# Altium schematic symbol library BLDC_Motor_Driver.SCHLIB: 68 symbols (part 2 of 2)
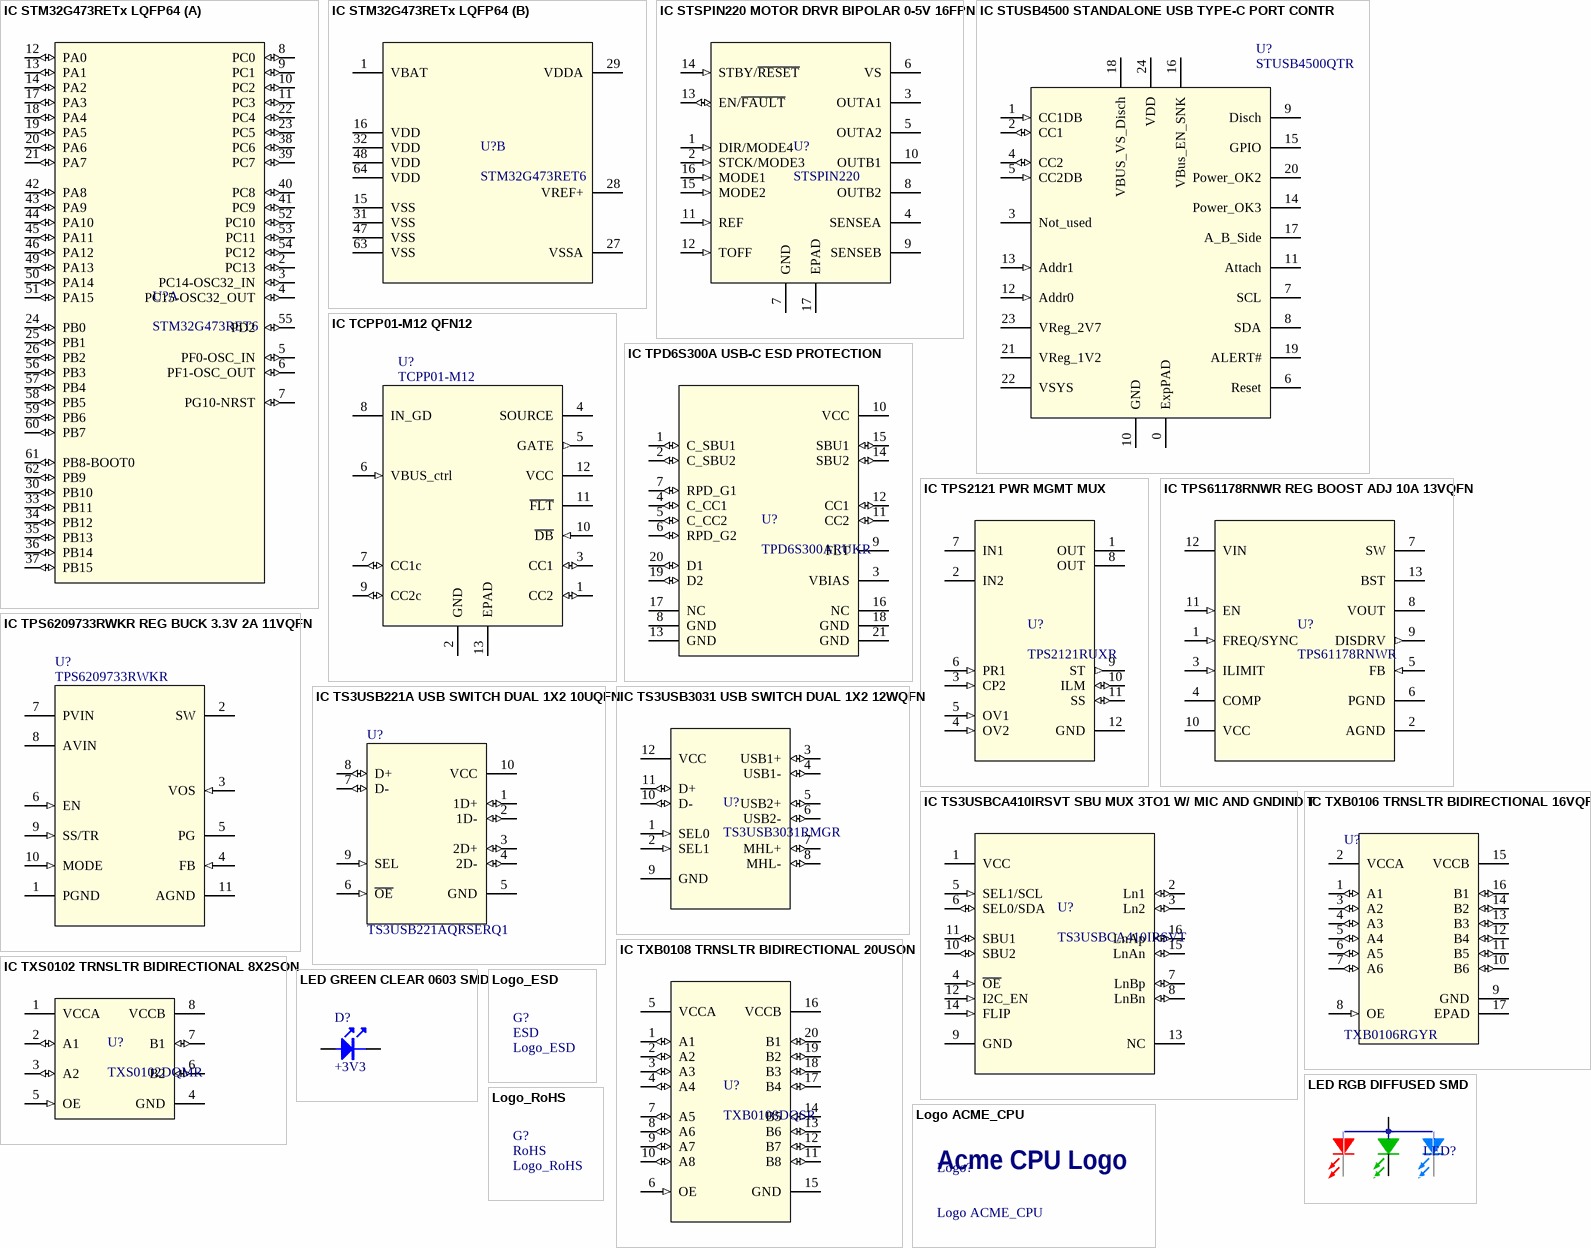
[diagram p5: symbols IC STM32G473RETx LQFP64 to Logo_RoHS]

## IC STM32G473RETx LQFP64
designator U?, comment STM32G473RET6
ARM® Cortex®-M4 STM32G4 Microcontroller IC 32-Bit 170MHz 512KB (512K x 8) FLASH 64-LQFP (10x10); Manufacturer: STMicroelectronics; Data RAM Size: 128 kB; Data RAM Type: SRAM; Interface Type: I2C, SPI, UART, USART, USB; Number of I/Os: 52 I/O; ADC Resolution: 12 bit; Analog Supply Voltage: 1.62 V to 3.6 V; Core: ARM Cortex M4; Data Bus Width: 32 bit; I/O Voltage: 5 V; Number of ADC Channels: 26 Channel; Operating Supply Voltage: 1.71 V to 3.6 V; Supply Voltage - Max: 3.6 V; Supply Voltage - Min: 1.71 V; Watchdog Timers: Watchdog Timer, Windowed; Product Status: New Product; Supplier 1: Mouser; Manufacturer Part Number: STM32G473RET6; RoHS: RoHS Compliant; Category: ARM Microcontrollers - MCU; Stock 1: 313; Pricing 1: 1=7.73, 10=6.99, 25=6.66, 100=5.79, 250=5.53, 500=5.04, 1000=4.54, 2500=4.22 (USD); Package / Case: LQFP-64; Packaging: Tray; Product: MCU+FPU; Program Memory Type: Flash; Series: STM32G473RE; Brand: STMicroelectronics; Mounting Style: SMD/SMT; Program Memory Size: 512 kB; DAC Resolution: 12 bit; Maximum Clock Frequency: 170 MHz; Maximum Operating Temperature: + 85 C; Minimum Operating Temperature: - 40 C; Moisture Sensitive: Yes; Processor Series: STM32G473; Product Type: ARM Microcontrollers - MCU; Standard Pack Qty: 960; Subcategory: Microcontrollers - MCU; Tradename: STM32; RoHS - Mouser: Y; Minimum Order Quantity: 1; Reeling: False; ComponentLink1URL: https://www.mouser.com/datasheet/2/389/dm00528822-1799294.pdf; ComponentLink1Description: https://www.mouser.com/datasheet/2/389/dm00528822-1799294.pdf; Supplier 2: Digi-Key; Supplier Part Number 1: 511-STM32G473RET6; Supplier Part Number 2: 497-STM32G473RET6-ND
footprint LQFP64-10x10mm
part A pins: 2 PC13 (io), 3 PC14-OSC32_IN (io), 4 PC15-OSC32_OUT (io), 5 PF0-OSC_IN (io), 6 PF1-OSC_OUT (io), 7 PG10-NRST (io), 8 PC0 (io), 9 PC1 (io), 10 PC2 (io), 11 PC3 (io), 12 PA0 (io), 13 PA1 (io), 14 PA2 (io), 17 PA3 (io), 18 PA4 (io), 19 PA5 (io), 20 PA6 (io), 21 PA7 (io), 22 PC4 (io), 23 PC5 (io), 24 PB0 (io), 25 PB1 (io), 26 PB2 (io), 30 PB10 (io), 33 PB11 (io), 34 PB12 (io), 35 PB13 (io), 36 PB14 (io), 37 PB15 (io), 38 PC6 (io), 39 PC7 (io), 40 PC8 (io), 41 PC9 (io), 42 PA8 (io), 43 PA9 (io), 44 PA10 (io), 45 PA11 (io), 46 PA12 (io), 49 PA13 (io), 50 PA14 (io), 51 PA15 (io), 52 PC10 (io), 53 PC11 (io), 54 PC12 (io), 55 PD2 (io), 56 PB3 (io), 57 PB4 (io), 58 PB5 (io), 59 PB6 (io), 60 PB7 (io), 61 PB8-BOOT0 (io), 62 PB9 (io)
part B pins: 1 VBAT (power), 15 VSS (power), 16 VDD (power), 27 VSSA (power), 28 VREF+ (power), 29 VDDA (power), 31 VSS (power), 32 VDD (power), 47 VSS (power), 48 VDD (power), 63 VSS (power), 64 VDD (power)

## IC STSPIN220 MOTOR DRVR BIPOLAR 0-5V 16FPN
designator U?, comment STSPIN220
Bipolar Motor Driver Power MOSFET Step/Direction 16-VFQFPN (3x3); Manufacturer: STMicroelectronics; Logic Function: AND; Output Current: 1.3A; Supplier 1: Digi-Key; Manufacturer Part Number: STSPIN220; Stock 1: 3586; Pricing 1: 1=1.62, 10=1.458, 25=1.3752, 100=1.1, 250=0.9625, 500=0.935, 1000=0.7425 (USD); Mount: Surface Mount; Min Operating Temperature: -40°C; Max Operating Temperature: 150°C; Packaging: Cut Tape; ComponentLink1URL: http://www.st.com/content/ccc/resource/technical/document/datasheet/group3/42/7e/5c/90/70/ef/47/95/DM00291865/files/DM00291865.pdf/jcr:content/translations/en.DM00291865.pdf?src-supplier=Digi-Key; ComponentLink1Description: http://www.st.com/content/ccc/resource/technical/document/datasheet/group3/42/7e/5c/90/70/ef/47/95/DM00291865/files/DM00291865.pdf/jcr:content/translations/en.DM00291865.pdf?src-supplier=Digi-Key; ComponentLink2URL: http://www.farnell.com/datasheets/2815804.pdf?src-supplier=Newark; ComponentLink2Description: http://www.farnell.com/datasheets/2815804.pdf?src-supplier=Newark; ComponentLink3URL: http://www.farnell.com/datasheets/2815804.pdf?src-supplier=Farnell; ComponentLink3Description: http://www.farnell.com/datasheets/2815804.pdf?src-supplier=Farnell; Supplier Part Number 1: 497-16602-1-ND
footprint VFQFPN-16_STM
pins: 1 DIR/MODE4 (in), 2 STCK/MODE3 (in), 3 OUTA1 (power), 4 SENSEA (power), 5 OUTA2 (power), 6 VS (power), 7 GND (power), 8 OUTB2 (power), 9 SENSEB (power), 10 OUTB1 (power), 11 REF (in), 12 TOFF (in), 13 EN/~{FAULT} (io), 14 STBY/~{RESET} (in), 15 MODE2 (in), 16 MODE1 (in), 17 EPAD (power)

## IC STUSB4500 STANDALONE USB TYPE-C PORT CONTR
designator U?, comment STUSB4500QTR
Standalone USB PD controller  with SINK auto-run mode in QFN24 4x4mm; Manufacturer: STMicroelectronics; Interface: I2C; Supplier 1: Digi-Key; Manufacturer Part Number: STUSB4500QTR; Stock 1: 1760; Pricing 1: 1=2.12, 10=1.907, 25=1.7996, 100=1.4396, 250=1.2596, 500=1.2237, 1000=0.9717 (USD); Case/Package: QFN; Min Operating Temperature: -40°C; Max Operating Temperature: 105°C; Packaging: Tape and Reel; ComponentLink1URL: http://www.farnell.com/datasheets/2710898.pdf?src-supplier=Farnell; ComponentLink1Description: http://www.farnell.com/datasheets/2710898.pdf?src-supplier=Farnell; ComponentLink2URL: http://www.farnell.com/datasheets/2710898.pdf?src-supplier=Newark; ComponentLink2Description: http://www.farnell.com/datasheets/2710898.pdf?src-supplier=Newark; ComponentLink3URL: http://www.st.com/content/ccc/resource/technical/document/datasheet/group3/1c/4a/55/d7/17/01/44/86/DM00489312/files/DM00489312.pdf/jcr:content/translations/en.DM00489312.pdf?src-supplier=Digi-Key; ComponentLink3Description: http://www.st.com/content/ccc/resource/technical/document/datasheet/group3/1c/4a/55/d7/17/01/44/86/DM00489312/files/DM00489312.pdf/jcr:content/translations/en.DM00489312.pdf?src-supplier=Digi-Key; ComponentLink4URL: http://www.farnell.com/datasheets/2710898.pdf?src-supplier=Element14; ComponentLink4Description: http://www.farnell.com/datasheets/2710898.pdf?src-supplier=Element14; Supplier Part Number 1: 497-18060-1-ND
footprint QFN24 - 4X4mm - pitch 0.5mm - ExposedPAD
pins: 0 ExpPAD, 1 CC1DB (in), 2 CC1 (io), 3 Not_used, 4 CC2 (io), 5 CC2DB (in), 6 Reset, 7 SCL, 8 SDA, 9 Disch (oc), 10 GND, 11 Attach (oc), 12 Addr0 (in), 13 Addr1 (in), 14 Power_OK3 (oc), 15 GPIO (oc), 16 VBus_EN_SNK (oc), 17 A_B_Side (oc), 18 VBUS_VS_Disch, 19 ALERT# (oc), 20 Power_OK2 (oc), 21 VReg_1V2, 22 VSYS, 23 VReg_2V7, 24 VDD

## IC TCPP01-M12 QFN12
designator U?, comment TCPP01-M12
USB Interface IC PROTECTION & FILTER; Manufacturer: STMicroelectronics; Port Type: DFP, UFP; Speed: High Speed; Operating Supply Current: 120 uA; Operating Supply Voltage: 3 V to 3.6 V; Supply Voltage - Max: 3.6 V; Supply Voltage - Min: 3 V; Product Status: New Product; Supplier 1: Mouser; Manufacturer Part Number: TCPP01-M12; RoHS: RoHS Compliant; Category: USB Interface IC; Stock 1: 2680; Pricing 1: 1=0.850, 10=0.722, 100=0.490, 500=0.464, 1000=0.361, 3000=0.343, 6000=0.330, 9000=0.319, 24000=0.310 (USD); Data Rate: -; Package / Case: QFN-12; Packaging: Cut Tape; Product: USB Protectors; Type: Power Delivery; Brand: STMicroelectronics; Mounting Style: SMD/SMT; Maximum Operating Temperature: + 85 C; Minimum Operating Temperature: - 40 C; Moisture Sensitive: Yes; Product Type: USB Interface IC; Standard: USB-C PD; Standard Pack Qty: 3000; Subcategory: Interface ICs; RoHS - Mouser: Y; Minimum Order Quantity: 1; Reeling: True; ComponentLink1URL: https://www.mouser.com/datasheet/2/389/dm00595160-1799482.pdf; ComponentLink1Description: https://www.mouser.com/datasheet/2/389/dm00595160-1799482.pdf; Supplier 2: Digi-Key; Supplier Part Number 1: 511-TCPP01-M12; Supplier Part Number 2: 497-TCPP01-M12CT-ND
footprint ST_QFN50P300x300x75-12L
pins: 1 CC2 (io), 2 GND (power), 3 CC1 (io), 4 SOURCE (power), 5 GATE (out), 6 VBUS_ctrl (in), 7 CC1c (io), 8 IN_GD (power), 9 CC2c (io), 10 ~{DB} (in), 11 ~{FLT} (oc), 12 VCC (power), 13 EPAD (power)

## IC TPD6S300A USB-C ESD PROTECTION
designator U?, comment TPD6S300ARUKR
USB Type-C™ Port Protector: Short-to-VBUS Overvoltage  and IEC ESD Protection; Manufacturer: Texas Instruments; Speed: Super Speed; Operating Supply Current: 600 mA; Operating Supply Voltage: 3.3 V; Supply Voltage - Max: 3.6 V; Supply Voltage - Min: 2.7 V; Supplier 1: Mouser; Manufacturer Part Number: TPD6S300ARUKR; RoHS: RoHS Compliant; Category: USB Interface IC; Stock 1: 6078; Pricing 1: 1=1.31, 10=1.11, 100=0.852, 500=0.753, 1000=0.594, 3000=0.555, 6000=0.527, 9000=0.507 (USD); Data Rate: -; Package / Case: WQFN-20; Packaging: Cut Tape; Product: USB Protectors; Series: TPD6S300A; Brand: Texas Instruments; Interface Type: USB; Mounting Style: SMD/SMT; ESD Protection: ESD Protection; Maximum Operating Temperature: + 85 C; Minimum Operating Temperature: - 40 C; Moisture Sensitive: Yes; Product Type: USB Interface IC; Standard: USB-C 2.0; Standard Pack Qty: 3000; Subcategory: Interface ICs; RoHS - Mouser: Y; Minimum Order Quantity: 1; Reeling: True; Supplier 2: Digi-Key; Supplier Part Number 1: 595-TPD6S300ARUKR; Supplier Part Number 2: 296-51856-1-ND
footprint WQFN20_RUK_TEX
pins: 1 C_SBU1 (io), 2 C_SBU2 (io), 3 VBIAS (power), 4 C_CC1 (io), 5 C_CC2 (io), 6 RPD_G2 (io), 7 RPD_G1 (io), 8 GND, 9 FLT (oc), 10 VCC (power), 11 CC2 (io), 12 CC1 (io), 13 GND, 14 SBU2 (io), 15 SBU1 (io), 16 NC, 17 NC, 18 GND, 19 D2 (io), 20 D1 (io), 21 GND

## IC TPS2121 PWR MGMT MUX
designator U?, comment TPS2121RUXR
OR Controller Source Selector Switch N-Channel 2:1 12-VQFN-HR (2x2.5); Manufacturer: Texas Instruments; Number of Outputs: 1 Output; Current Limit: 4.5 A; On Resistance - Max: 100 mOhms; Operating Supply Voltage: 2.8 V to 22 V; Supply Voltage - Max: 22 V; Supply Voltage - Min: 2.8 V; Product Status: New Product; Supplier 1: Mouser; Manufacturer Part Number: TPS2121RUXR; RoHS: RoHS Compliant; Category: Power Switch ICs - Power Distribution; Stock 1: 13551; Pricing 1: 1=2.08, 10=1.76, 100=1.41, 250=1.24, 500=1.20, 1000=0.951, 3000=0.916, 6000=0.880, 9000=0.866 (USD); Package / Case: VQFN-12; Packaging: Cut Tape; Product: Power Switch ICs; Series: TPS2121; Type: Power MUX; Brand: Texas Instruments; Mounting Style: SMD/SMT; Maximum Operating Temperature: + 125 C; Minimum Operating Temperature: - 40 C; Product Type: Power Switch ICs - Power Distribution; Standard Pack Qty: 3000; Subcategory: Switch ICs; RoHS - Mouser: Y; Minimum Order Quantity: 1; Reeling: True; Supplier 2: Digi-Key; Supplier Part Number 1: 595-TPS2121RUXR; Supplier Part Number 2: 296-53410-6-ND
footprint RUX0012A
pins: 1 OUT (power), 2 IN2 (power), 3 CP2 (in), 4 OV2 (in), 5 OV1 (in), 6 PR1 (in), 7 IN1 (power), 8 OUT (power), 9 ST (out), 10 ILM (io), 11 SS (io), 12 GND (power)

## IC TPS61178RNWR REG BOOST ADJ 10A 13VQFN
designator U?, comment TPS61178RNWR
Boost Switching Regulator IC Positive Adjustable 4.5V 1 Output 10A (Switch) 13-PowerVFQFN; Manufacturer: Texas Instruments; Number of Outputs: 1; Min Input Voltage: 2.7V; Max Input Voltage: 20V; Switching Frequency: 2.2MHz; Synchronous Rectifier: Yes; Supplier 1: Digi-Key; Manufacturer Part Number: TPS61178RNWR; Stock 1: 815; Pricing 1: 1=4.2, 10=3.77, 25=3.564, 100=2.9304, 250=2.6294, 500=2.5344, 1000=2.1067 (USD); Mount: Surface Mount; Case/Package: VQFN; Number of Pins: 13; Min Operating Temperature: -40°C; Max Operating Temperature: 85°C; Topology: Boost; Output Type: Adjustable; Packaging: Cut Tape; Output Configuration: Positive; Min Output Voltage: 4.5V; Max Output Voltage: 20V; Output Current: 10A; ComponentLink1URL: http://www.ti.com/general/docs/suppproductinfo.tsp?distId=10&amp;gotoUrl=http%3A%2F%2Fwww.ti.com%2Flit%2Fgpn%2Ftps61178&src-supplier=Digi-Key; ComponentLink1Description: http://www.ti.com/general/docs/suppproductinfo.tsp?distId=10&amp;gotoUrl=http%3A%2F%2Fwww.ti.com%2Flit%2Fgpn%2Ftps61178&src-supplier=Digi-Key; ComponentLink2URL: http://www.ti.com/lit/ds/symlink/tps61178.pdf?src-supplier=Digi-Key; ComponentLink2Description: http://www.ti.com/lit/ds/symlink/tps61178.pdf?src-supplier=Digi-Key; Supplier Part Number 1: 296-50115-1-ND
footprint RNW0013A
pins: 1 FREQ/SYNC (in), 2 AGND (power), 3 ILIMIT (in), 4 COMP, 5 FB (in), 6 PGND (power), 7 SW (power), 8 VOUT (power), 9 DISDRV (out), 10 VCC (power), 11 EN (in), 12 VIN (power), 13 BST (power)

## IC TPS6209733RWKR REG BUCK 3.3V 2A 11VQFN
designator U?, comment TPS6209733RWKR
Buck Switching Regulator IC Positive Fixed 3.3V 1 Output 2A 11-VFQFN; Manufacturer: Texas Instruments; Number of Outputs: 1; Max Input Voltage: 6V; Min Input Voltage: 2.5V; Switching Frequency: 2.5MHz; Synchronous Rectifier: Yes; Quiescent Current: 40uA; ComponentLink1URL: http://www.ti.com/lit/gpn/tps62097?src-supplier=Mouser; ComponentLink1Description: http://www.ti.com/lit/gpn/tps62097?src-supplier=Mouser; Supplier 1: Digi-Key; Manufacturer Part Number: TPS6209733RWKR; Stock 1: 1536; Pricing 1: 1=1.74, 10=1.561, 100=1.1783, 500=1.0016, 1000=0.7954 (USD); Number of Pins: 11; Min Operating Temperature: -40°C; Max Operating Temperature: 125°C; Packaging: Tape and Reel; Output Current: 2A; Min Output Voltage: 3.3V; Output Type: Fixed; Output Configuration: Positive; Lead Free: Lead Free; Supplier Part Number 1: 296-49007-1-ND; Mount: Surface Mount; Case/Package: VQFN; ComponentLink2URL: http://www.ti.com/lit/ds/symlink/tps62097.pdf?src-supplier=Digi-Key; ComponentLink2Description: http://www.ti.com/lit/ds/symlink/tps62097.pdf?src-supplier=Digi-Key
footprint RWK11
pins: 1 PGND (power), 2 SW (power), 3 VOS (in), 4 FB (in), 5 PG (oc), 6 EN (in), 7 PVIN (power), 8 AVIN (power), 9 SS/TR (in), 10 MODE (in), 11 AGND (power)

## IC TS3USB221A USB SWITCH DUAL 1X2 10UQFN
designator U?, comment TS3USB221AQRSERQ1
USB Switch IC 2 Channel 10-UQFN (2.0x1.5); Manufacturer: Texas Instruments; Operating Supply Voltage: 3V; Max Supply Voltage: 3.6V; Number of Inputs: 4; Number of Outputs: 2; Min Supply Voltage: 2.3V; Data Rate: 480Mbps; Bandwidth: 900MHz; Nominal Supply Current: 30uA; On-State Resistance: 6R; Supply Type: Single; Turn-Off Delay Time: 30ns; Turn-On Delay Time: 12ns; Low Level Output Current: 120mA; Supplier 1: Digi-Key; Manufacturer Part Number: TS3USB221AQRSERQ1; Stock 1: 5569; Pricing 1: 1=1.35, 10=1.21, 25=1.148, 100=0.8815, 250=0.779, 500=0.738, 1000=0.574 (USD); Number of Pins: 10; Contact Plating: Gold; Min Operating Temperature: -40°C; Max Operating Temperature: 125°C; Package Quantity: 3000; Packaging: Tape and Reel; Number of Channels: 2; Operating Supply Current: 30uA; High Level Output Current: 120mA; Radiation Hardening: No; Lead Free: Lead Free; ComponentLink1URL: http://www.ti.com/lit/pdf/scds300?src-supplier=Digi-Key; ComponentLink1Description: http://www.ti.com/lit/pdf/scds300?src-supplier=Digi-Key; ComponentLink2URL: https://www.verical.com/server-webapp/html/getDatasheet?partID=329854&src-supplier=Verical; ComponentLink2Description: https://www.verical.com/server-webapp/html/getDatasheet?partID=329854&src-supplier=Verical; ComponentLink3URL: http://www.ti.com/lit/ds/scds300c/scds300c.pdf?src-supplier=Avnet; ComponentLink3Description: http://www.ti.com/lit/ds/scds300c/scds300c.pdf?src-supplier=Avnet; ComponentLink4URL: http://www.produktinfo.conrad.com/datenblaetter/1100000-1199999/001187374-da-01-en-IC_USB_SWI_TS3USB221AQRSERQ1_UQFN_10_TID.pdf?src-supplier=Conrad; ComponentLink4Description: http://www.produktinfo.conrad.com/datenblaetter/1100000-1199999/001187374-da-01-en-IC_USB_SWI_TS3USB221AQRSERQ1_UQFN_10_TID.pdf?src-supplier=Conrad; Supplier Part Number 1: 296-27719-1-ND
footprint RSE10_TEX
pins: 1 1D+ (io), 2 1D- (io), 3 2D+ (io), 4 2D- (io), 5 GND (power), 6 ~{OE} (in), 7 D- (io), 8 D+ (io), 9 SEL (in), 10 VCC (power)

## IC TS3USB3031 USB SWITCH DUAL 1X2 12WQFN
designator U?, comment TS3USB3031RMGR
USB Switch IC 1 Channel 12-WQFN (1.8x1.8); Manufacturer: Texas Instruments; Bandwidth: 6.5 GHz; Configuration: 1 x DP3T; Off Time - Max: 0.1 ns; On Resistance - Max: 7 Ohms; On Time - Max: 100 us; Development Kit: TS3USB3031EVM; Number of Switches: 2 Switch; Operating Supply Current: 40 uA; Operating Supply Voltage: 2.5 V; Supply Voltage - Max: 4.3 V; Switch Continuous Current: 60 mA; Supplier 1: Mouser; Manufacturer Part Number: TS3USB3031RMGR; RoHS: RoHS Compliant; Category: USB Switch ICs; Stock 1: 14547; Pricing 1: 1=1.16, 10=0.980, 100=0.753, 250=0.666, 500=0.630, 1000=0.490, 3000=0.466, 6000=0.448, 9000=0.434 (USD); Package / Case: WQFN-12; Packaging: Cut Tape; Product: USB 2.0, MHL, MyDP Switches; Series: TS3USB3031; Brand: Texas Instruments; Mounting Style: SMD/SMT; Maximum Operating Temperature: + 85 C; Minimum Operating Temperature: - 40 C; Product Type: USB Switch ICs; Standard Pack Qty: 3000; Subcategory: Switch ICs; Supply Voltage - Min: 2.5 V; RoHS - Mouser: Y; Minimum Order Quantity: 1; Reeling: True; Supplier 2: Digi-Key; Supplier Part Number 1: 595-TS3USB3031RMGR; Supplier Part Number 2: 296-41018-1-ND
footprint RMG12_TEX
pins: 1 SEL0 (in), 2 SEL1 (in), 3 USB1+ (io), 4 USB1- (io), 5 USB2+ (io), 6 USB2- (io), 7 MHL+ (io), 8 MHL- (io), 9 GND (power), 10 D- (io), 11 D+ (io), 12 VCC (power)

## IC TS3USBCA410IRSVT SBU MUX 3TO1 W/ MIC AND GNDIND T
designator U?, comment TS3USBCA410IRSVT
USB Switch IC 1 Channel 16-UQFN (2.6x1.8); Manufacturer: Texas Instruments; Number of Channels: 3; Supplier 1: Digi-Key; Manufacturer Part Number: TS3USBCA410IRSVT; Stock 1: 250; Pricing 1: 1=1.07, 10=0.959, 25=0.91, 100=0.6988 (USD); Min Operating Temperature: -40°C; Max Operating Temperature: 85°C; ComponentLink1URL: http://www.ti.com/general/docs/suppproductinfo.tsp?distId=10&amp;gotoUrl=http%3A%2F%2Fwww.ti.com%2Flit%2Fgpn%2Fts3usbca4&src-supplier=Digi-Key; ComponentLink1Description: http://www.ti.com/general/docs/suppproductinfo.tsp?distId=10&amp;gotoUrl=http%3A%2F%2Fwww.ti.com%2Flit%2Fgpn%2Fts3usbca4&src-supplier=Digi-Key; Supplier Part Number 1: 296-52158-1-ND
footprint RSV16_TEX
pins: 1 VCC (power), 2 Ln1 (io), 3 Ln2 (io), 4 ~{OE} (in), 5 SEL1/SCL (in), 6 SEL0/SDA (io), 7 LnBp (io), 8 LnBn (io), 9 GND (power), 10 SBU2 (io), 11 SBU1 (io), 12 I2C_EN (in), 13 NC, 14 FLIP (in), 15 LnAn (io), 16 LnAp (io)

## IC TXB0106 TRNSLTR BIDIRECTIONAL 16VQFN
designator U?, comment TXB0106RGYR
Voltage Level Translator Bidirectional 1 Circuit 6 Channel 100Mbps 16-VQFN (4x4); Manufacturer: Texas Instruments; Number of Channels: 6; Propagation Delay: 4ns; Max Supply Voltage: 5.5V; Min Supply Voltage: 1.2V; Turn-On Delay Time: 9.5ns; High Level Output Current: -20uA; Low Level Output Current: 20uA; Quiescent Current: 3.5uA; Supplier 1: Digi-Key; Manufacturer Part Number: TXB0106RGYR; Stock 1: 60702; Pricing 1: 1=1.48, 10=1.333, 25=1.2576, 100=1.0714, 250=1.006, 500=0.8803, 1000=0.7294 (USD); Mount: Surface Mount; Case/Package: VQFN; Number of Pins: 16; Weight: 0.001312oz; Contact Plating: Gold; Min Operating Temperature: -40°C; Max Operating Temperature: 85°C; Data Rate: 100Mbps; Packaging: Tape and Reel; Package Quantity: 1; Number of Inputs: 6; Logic Function: Translator; Number of Bits: 6; Number of Outputs: 6; Length: 4.15mm; Height: 0.95mm; Width: 3.65mm; Radiation Hardening: No; REACH SVHC: No SVHC; Lead Free: Lead Free; ComponentLink1URL: http://www.ti.com/lit/ds/symlink/txb0106.pdf?src-supplier=Digi-Key; ComponentLink1Description: http://www.ti.com/lit/ds/symlink/txb0106.pdf?src-supplier=Digi-Key; ComponentLink2URL: http://www.ti.com/lit/gpn/txb0106?src-supplier=Mouser; ComponentLink2Description: http://www.ti.com/lit/gpn/txb0106?src-supplier=Mouser; ComponentLink3URL: https://www.verical.com/server-webapp/html/getDatasheet?partID=256000&src-supplier=Verical; ComponentLink3Description: https://www.verical.com/server-webapp/html/getDatasheet?partID=256000&src-supplier=Verical; ComponentLink4URL: http://www.farnell.com/datasheets/1887516.pdf?src-supplier=Element14; ComponentLink4Description: http://www.farnell.com/datasheets/1887516.pdf?src-supplier=Element14; ComponentLink5URL: http://www.ti.com/general/docs/lit/getliterature.tsp?genericPartNumber=TXB0106&&fileType=pdf&src-supplier=Avnet; ComponentLink5Description: http://www.ti.com/general/docs/lit/getliterature.tsp?genericPartNumber=TXB0106&&fileType=pdf&src-supplier=Avnet; Supplier Part Number 1: 296-23868-1-ND
footprint RGY16
pins: 1 A1 (io), 2 VCCA (power), 3 A2 (io), 4 A3 (io), 5 A4 (io), 6 A5 (io), 7 A6 (io), 8 OE (in), 9 GND (power), 10 B6 (io), 11 B5 (io), 12 B4 (io), 13 B3 (io), 14 B2 (io), 15 VCCB (power), 16 B1 (io), 17 EPAD (power)

## IC TXB0108 TRNSLTR BIDIRECTIONAL 20USON
designator U?, comment TXB0108DQSR
Voltage Level Translator Bidirectional 1 Circuit 8 Channel 100Mbps 20-USON (4x2); Manufacturer: Texas Instruments; Max Supply Voltage: 5.5V; Min Supply Voltage: 1.2V; Propagation Delay: 4ns; Number of Inputs: 8; High Level Output Current: -20uA; Low Level Output Current: 20uA; Quiescent Current: 3.5uA; Turn-On Delay Time: 35.6ns; Supplier 1: Digi-Key; Manufacturer Part Number: TXB0108DQSR; Stock 1: 18752; Pricing 1: 1=1.29, 10=1.151, 25=1.092, 100=0.897, 250=0.8385, 500=0.741, 1000=0.585 (USD); Mount: Surface Mount; Number of Pins: 20; Min Operating Temperature: -40°C; Max Operating Temperature: 85°C; Packaging: Tape and Reel; Package Quantity: 1; Data Rate: 100Mbps; Number of Channels: 8; Logic Function: Translator; Number of Bits: 8; Radiation Hardening: No; REACH SVHC: No SVHC; Lead Free: Lead Free; ComponentLink1URL: http://www.ti.com/general/docs/lit/getliterature.tsp?genericPartNumber=TXB0108&amp;&amp;fileType=pdf&src-supplier=Element14; ComponentLink1Description: http://www.ti.com/general/docs/lit/getliterature.tsp?genericPartNumber=TXB0108&amp;&amp;fileType=pdf&src-supplier=Element14; ComponentLink2URL: http://www.ti.com/general/docs/suppproductinfo.tsp?distId=10&gotoUrl=http%3A%2F%2Fwww.ti.com%2Flit%2Fgpn%2Ftxb0108&src-supplier=Digi-Key; ComponentLink2Description: http://www.ti.com/general/docs/suppproductinfo.tsp?distId=10&gotoUrl=http%3A%2F%2Fwww.ti.com%2Flit%2Fgpn%2Ftxb0108&src-supplier=Digi-Key; ComponentLink3URL: http://www.ti.com/lit/ds/symlink/txb0108.pdf?src-supplier=Avnet+Europe; ComponentLink3Description: http://www.ti.com/lit/ds/symlink/txb0108.pdf?src-supplier=Avnet+Europe; ComponentLink4URL: http://www.ti.com/general/docs/lit/getliterature.tsp?genericPartNumber=TXB0108&&fileType=pdf&src-supplier=Avnet; ComponentLink4Description: http://www.ti.com/general/docs/lit/getliterature.tsp?genericPartNumber=TXB0108&&fileType=pdf&src-supplier=Avnet; Supplier Part Number 1: 296-27217-1-ND
footprint DQS20_TEX
pins: 1 A1 (io), 2 A2 (io), 3 A3 (io), 4 A4 (io), 5 VCCA (power), 6 OE (in), 7 A5 (io), 8 A6 (io), 9 A7 (io), 10 A8 (io), 11 B8 (io), 12 B7 (io), 13 B6 (io), 14 B5 (io), 15 GND (power), 16 VCCB (power), 17 B4 (io), 18 B3 (io), 19 B2 (io), 20 B1 (io)

## IC TXS0102 TRNSLTR BIDIRECTIONAL 8X2SON
designator U?, comment TXS0102DQMR
2-Bit Bidirectional Voltage-Level Translator for Open-Drain Application; Manufacturer: Texas Instruments; Max Supply Voltage: 5.5V; Min Supply Voltage: 1.65V; Propagation Delay: 260ns; Data Rate: 24Mbps; Number of Channels: 2; Turn-On Delay Time: 4.6ns; Low Level Output Current: 1mA; High Level Output Current: -20uA; Quiescent Current: 14.4uA; Supplier 1: Digi-Key; Manufacturer Part Number: TXS0102DQMR; Stock 1: 53273; Pricing 1: 1=0.69, 10=0.611, 25=0.5736, 100=0.4681, 250=0.4348, 500=0.37, 1000=0.296 (USD); Mount: Surface Mount; Number of Pins: 8; Contact Plating: Gold; Min Operating Temperature: -40°C; Max Operating Temperature: 85°C; Packaging: Tape and Reel; Package Quantity: 1; Logic Function: Translator; Number of Bits: 2; Number of Inputs: 2; Output Type: Voltage; Length: 1.85mm; Height: 0.35mm; Width: 1.25mm; Radiation Hardening: No; REACH SVHC: No SVHC; Lead Free: Lead Free; ComponentLink1URL: https://www.verical.com/server-webapp/html/getDatasheet?partID=544149&src-supplier=Verical; ComponentLink1Description: https://www.verical.com/server-webapp/html/getDatasheet?partID=544149&src-supplier=Verical; ComponentLink2URL: http://www.ti.com/general/docs/suppproductinfo.tsp?distId=10&gotoUrl=http%3A%2F%2Fwww.ti.com%2Flit%2Fgpn%2Ftxs0102&src-supplier=Digi-Key; ComponentLink2Description: http://www.ti.com/general/docs/suppproductinfo.tsp?distId=10&gotoUrl=http%3A%2F%2Fwww.ti.com%2Flit%2Fgpn%2Ftxs0102&src-supplier=Digi-Key; Supplier Part Number 1: 296-28435-1-ND
footprint DQM8
pins: 1 VCCA (power), 2 A1 (io), 3 A2 (io), 4 GND (power), 5 OE (in), 6 B2 (io), 7 B1 (io), 8 VCCB (power)

## LED GREEN CLEAR 0603 SMD
designator D?, comment +3V3
Green 571nm LED Indication - Discrete 2V 0603 (1608 Metric); Manufacturer: Vishay Lite-On; Manufacturer Part Number: LTST-C191KGKT; Lens Color: Colorless; Luminous Intensity: 35mcd; Viewing Angle: 130°; Test Current: 20mA; Lens Transparency: Clear; Wavelength: 574nm; Lens Style: Rectangular,Colorless; Forward Current: 30mA; Number of Elements: 1; Power Dissipation: 75mW; Reverse Voltage: 5V; Supplier 1: Digi-Key; Supplier Part Number 1: 160-1446-6-ND; Stock 1: 788359; Pricing 1: 1=0.28, 10=0.201, 100=0.0954, 500=0.0636, 1000=0.0498, 2500=0.0488 (USD); Mount: Surface Mount; Number of Pins: 2; Case Code (Metric): 1608; Case Code (Imperial): 0603; Min Operating Temperature: -55°C; Max Operating Temperature: 85°C; Packaging: Tape and Reel; Package Quantity: 1; Forward Voltage: 2V; Dominant Wavelength: 571nm; Illumination Color: Green; Number of LEDs: 1; Power Rating: 75mW; Max Power Dissipation: 75mW; Length: 1.6mm; Height: 0.55mm; Width: 0.8mm; Depth: 0.8mm; Radiation Hardening: No; Lead Free: Lead Free; ComponentLink1URL: http://optoelectronics.liteon.com/upload/download/DS22-2000-228/LTST-C191KGKT.PDF?src-supplier=Digi-Key; ComponentLink1Description: http://optoelectronics.liteon.com/upload/download/DS22-2000-228/LTST-C191KGKT.PDF?src-supplier=Digi-Key
footprint LED_0603 (LED Indication - Discrete 0603)
pins: 1 K, 2 A

## LED RGB DIFFUSED SMD
designator LED?, comment 150066M153000  (value not drawn)
Red, Green, Blue (RGB) 624nm Red, 525nm Green, 470nm Blue LED Indication - Discrete 2V Red, 3.3V Green, 3.3V Blue 0606 (1616 Metric); Manufacturer: Wurth Electronics; Color: Blue,Green,Red; Lens Style: Flat; Element Configuration: Common Anode; Lens Transparency: Diffused; Luminous Intensity: 180mcd; Test Current: 20mA; Viewing Angle: 120°; Lens Size: 1.6mm; Supplier 1: Digi-Key; Manufacturer Part Number: 150066M153000; Stock 1: 7810; Pricing 1: 1=0.51, 50=0.415, 100=0.298, 500=0.272 (USD); Mount: Surface Mount; Case/Package: 0606; Case Code (Imperial): 0606; Case Code (Metric): 1616; Packaging: Tape and Reel; Forward Voltage: 3.3V; Dominant Wavelength: 470nm; Length: 1.6mm; Height: 0.5mm; Width: 1.6mm; ComponentLink1URL: https://katalog.we-online.de/led/datasheet/150066M153000.pdf?src-supplier=Digi-Key; ComponentLink1Description: https://katalog.we-online.de/led/datasheet/150066M153000.pdf?src-supplier=Digi-Key; ComponentLink2URL: http://www.farnell.com/datasheets/2301702.pdf?src-supplier=Farnell; ComponentLink2Description: http://www.farnell.com/datasheets/2301702.pdf?src-supplier=Farnell; ComponentLink3URL: http://www.farnell.com/datasheets/2301702.pdf?src-supplier=Newark; ComponentLink3Description: http://www.farnell.com/datasheets/2301702.pdf?src-supplier=Newark; ComponentLink4URL: http://www.farnell.com/datasheets/2301702.pdf?src-supplier=Element14; ComponentLink4Description: http://www.farnell.com/datasheets/2301702.pdf?src-supplier=Element14; Supplier Part Number 1: 732-11390-1-ND
footprint LED_0606_RGB_WURTH (Chip; Body 1.6 x 1.6 mm (LxW typ) WURTH)
pins: A, BK, GK, RK

## Logo ACME_CPU
designator Logo?  (no BOM)
ClassName: PCB_FEATURE
footprint LOGO_ACME_CPU (Footprint not found)
text: Acme CPU Logo

## Logo_ESD
designator G?  (no BOM)
footprint Logo_ESD (Silk only)
text: ESD

## Logo_RoHS
designator G?  (no BOM)
footprint Logo_RoHS (Silk only)
text: RoHS

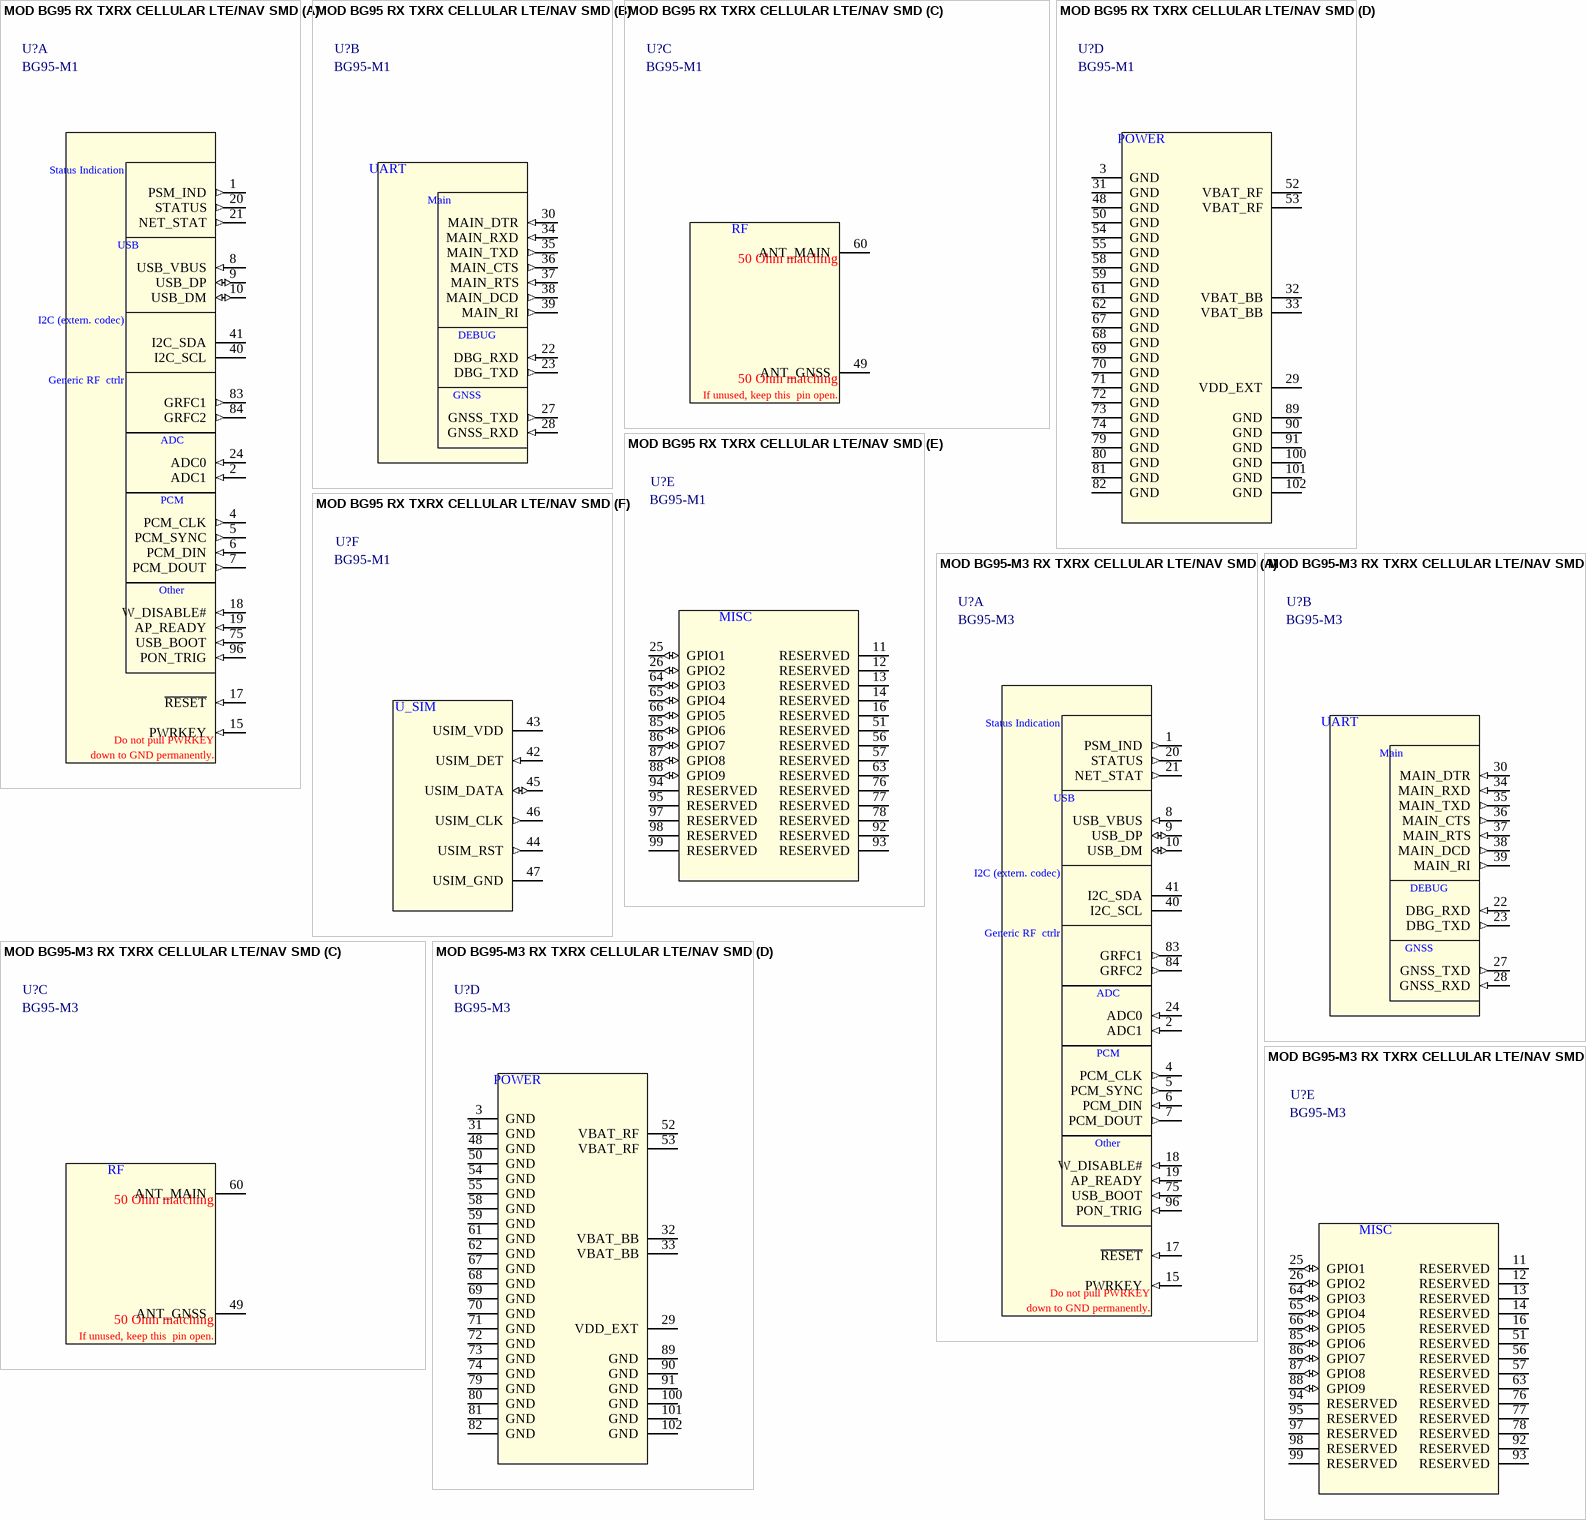
[diagram p3: symbols MOD BG95 RX TXRX CELLULAR LTE/NAV SMD to MOD BG95-M3 RX TXRX CELLULAR LTE/NAV SMD]

## MOD BG95 RX TXRX CELLULAR LTE/NAV SMD
designator U?, comment BG95-M1
LTE Cat M1, LTE Cat NB2 and EGPRS Transceiver Module Antenna Not Included Surface Mount; Manufacturer: QUECTEL; Part Description: IC MODULE BG95 102-LGA 19.9x23.6mm H2.2mm RO; Geometry.Height: 2.2mm; Value: BG95; Manufacturer Part Number: BG95-M1; PCB DECAL: BG95
footprint BG95
part A pins: 1 PSM_IND (out), 2 ADC1 (in), 4 PCM_CLK (out), 5 PCM_SYNC (out), 6 PCM_DIN (in), 7 PCM_DOUT (out), 8 USB_VBUS (in), 9 USB_DP (io), 10 USB_DM (io), 15 PWRKEY (in), 17 ~{RESET} (in), 18 W_DISABLE# (in), 19 AP_READY (in), 20 STATUS (out), 21 NET_STAT (out), 24 ADC0 (in), 40 I2C_SCL, 41 I2C_SDA, 75 USB_BOOT (in), 83 GRFC1 (out), 84 GRFC2 (out), 96 PON_TRIG (in)
part B pins: 22 DBG_RXD (in), 23 DBG_TXD (out), 27 GNSS_TXD (out), 28 GNSS_RXD (in), 30 MAIN_DTR (in), 34 MAIN_RXD (in), 35 MAIN_TXD (out), 36 MAIN_CTS (out), 37 MAIN_RTS (in), 38 MAIN_DCD (out), 39 MAIN_RI (out)
part C pins: 49 ANT_GNSS, 60 ANT_MAIN
part D pins: 3 GND (power), 29 VDD_EXT (power) "If unused, keep this  pin open", 31 GND (power), 32 VBAT_BB (power), 33 VBAT_BB (power), 48 GND (power), 50 GND (power), 52 VBAT_RF (power), 53 VBAT_RF (power), 54 GND (power), 55 GND (power), 58 GND (power), 59 GND (power), 61 GND (power), 62 GND (power), 67 GND (power), 68 GND (power), 69 GND (power), 70 GND (power), 71 GND (power), 72 GND (power), 73 GND (power), 74 GND (power), 79 GND (power), 80 GND (power), 81 GND (power), 82 GND (power), 89 GND (power), 90 GND (power), 91 GND (power), 100 GND (power), 101 GND (power), 102 GND (power)
part E pins: 11 RESERVED, 12 RESERVED, 13 RESERVED, 14 RESERVED, 16 RESERVED, 25 GPIO1 (io), 26 GPIO2 (io), 51 RESERVED, 56 RESERVED, 57 RESERVED, 63 RESERVED, 64 GPIO3 (io), 65 GPIO4 (io), 66 GPIO5 (io), 76 RESERVED, 77 RESERVED, 78 RESERVED, 85 GPIO6 (io), 86 GPIO7 (io), 87 GPIO8 (io), 88 GPIO9 (io), 92 RESERVED, 93 RESERVED, 94 RESERVED, 95 RESERVED, 97 RESERVED, 98 RESERVED, 99 RESERVED
part F pins: 42 USIM_DET (in), 43 USIM_VDD (power), 44 USIM_RST (out), 45 USIM_DATA (io), 46 USIM_CLK (out), 47 USIM_GND (power)
part A text: Status Indication; USB; I2C (extern. codec); Generic RF  ctrlr; ADC; PCM; Other; Do not pull PWRKEY; down to GND permanently.
part B text: UART; Main; DEBUG; GNSS
part C text: RF; 50 Ohm matching; If unused, keep this  pin open.
part D text: POWER
part E text: MISC
part F text: U_SIM

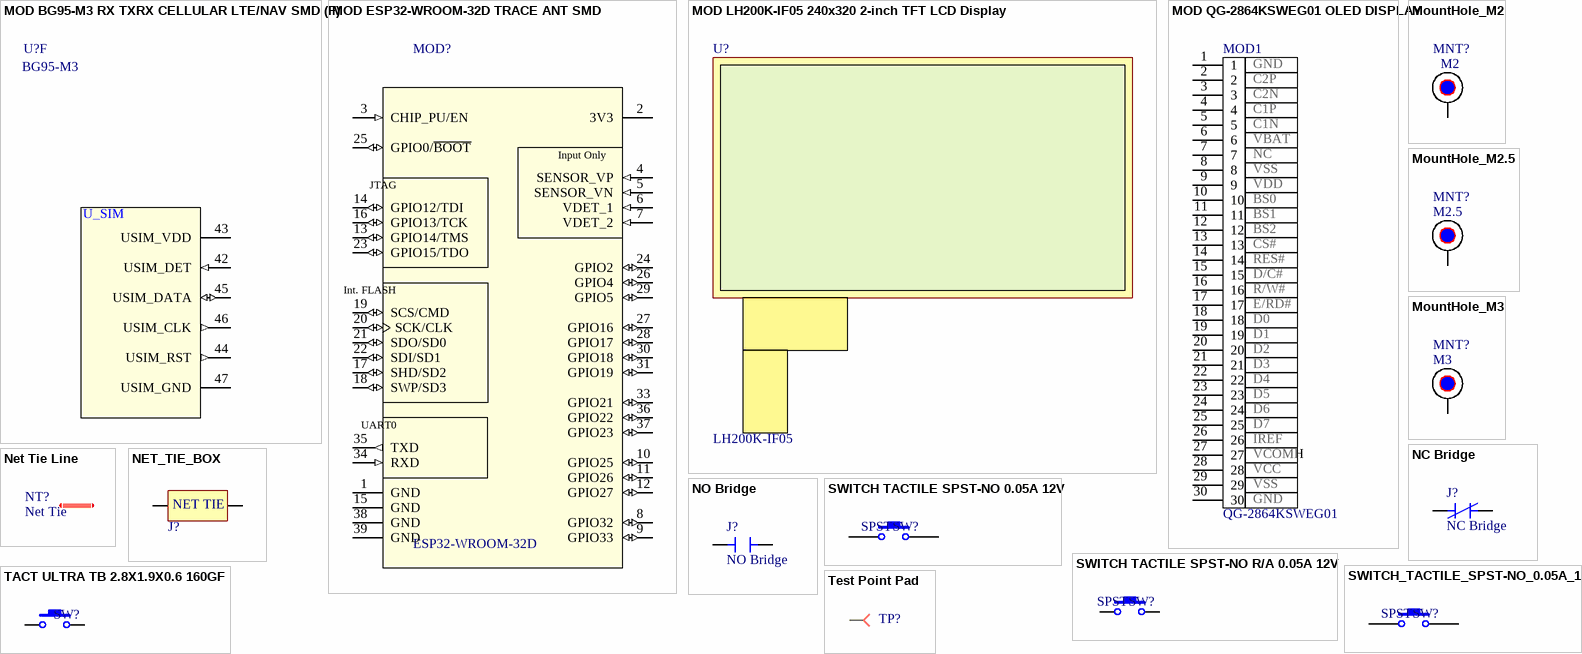
[diagram p4: symbols MOD BG95-M3 RX TXRX CELLULAR LTE/NAV SMD to Test Point Pad]

## MOD BG95-M3 RX TXRX CELLULAR LTE/NAV SMD
designator U?, comment BG95-M3
LTE Cat M1, LTE Cat NB2 and EGPRS Transceiver Module Antenna Not Included Surface Mount; Manufacturer: QUECTEL; Part Description: IC MODULE BG95 102-LGA 19.9x23.6mm H2.2mm RO; Geometry.Height: 2.2mm; Value: BG95; Manufacturer Part Number: BG95-M3; PCB DECAL: BG95
footprint BG95
part A pins: 1 PSM_IND (out), 2 ADC1 (in), 4 PCM_CLK (out), 5 PCM_SYNC (out), 6 PCM_DIN (in), 7 PCM_DOUT (out), 8 USB_VBUS (in), 9 USB_DP (io), 10 USB_DM (io), 15 PWRKEY (in), 17 ~{RESET} (in), 18 W_DISABLE# (in), 19 AP_READY (in), 20 STATUS (out), 21 NET_STAT (out), 24 ADC0 (in), 40 I2C_SCL, 41 I2C_SDA, 75 USB_BOOT (in), 83 GRFC1 (out), 84 GRFC2 (out), 96 PON_TRIG (in)
part B pins: 22 DBG_RXD (in), 23 DBG_TXD (out), 27 GNSS_TXD (out), 28 GNSS_RXD (in), 30 MAIN_DTR (in), 34 MAIN_RXD (in), 35 MAIN_TXD (out), 36 MAIN_CTS (out), 37 MAIN_RTS (in), 38 MAIN_DCD (out), 39 MAIN_RI (out)
part C pins: 49 ANT_GNSS, 60 ANT_MAIN
part D pins: 3 GND (power), 29 VDD_EXT (power) "If unused, keep this  pin open", 31 GND (power), 32 VBAT_BB (power), 33 VBAT_BB (power), 48 GND (power), 50 GND (power), 52 VBAT_RF (power), 53 VBAT_RF (power), 54 GND (power), 55 GND (power), 58 GND (power), 59 GND (power), 61 GND (power), 62 GND (power), 67 GND (power), 68 GND (power), 69 GND (power), 70 GND (power), 71 GND (power), 72 GND (power), 73 GND (power), 74 GND (power), 79 GND (power), 80 GND (power), 81 GND (power), 82 GND (power), 89 GND (power), 90 GND (power), 91 GND (power), 100 GND (power), 101 GND (power), 102 GND (power)
part E pins: 11 RESERVED, 12 RESERVED, 13 RESERVED, 14 RESERVED, 16 RESERVED, 25 GPIO1 (io), 26 GPIO2 (io), 51 RESERVED, 56 RESERVED, 57 RESERVED, 63 RESERVED, 64 GPIO3 (io), 65 GPIO4 (io), 66 GPIO5 (io), 76 RESERVED, 77 RESERVED, 78 RESERVED, 85 GPIO6 (io), 86 GPIO7 (io), 87 GPIO8 (io), 88 GPIO9 (io), 92 RESERVED, 93 RESERVED, 94 RESERVED, 95 RESERVED, 97 RESERVED, 98 RESERVED, 99 RESERVED
part F pins: 42 USIM_DET (in), 43 USIM_VDD (power), 44 USIM_RST (out), 45 USIM_DATA (io), 46 USIM_CLK (out), 47 USIM_GND (power)
part A text: Status Indication; USB; I2C (extern. codec); Generic RF  ctrlr; ADC; PCM; Other; Do not pull PWRKEY; down to GND permanently.
part B text: UART; Main; DEBUG; GNSS
part C text: RF; 50 Ohm matching; If unused, keep this  pin open.
part D text: POWER
part E text: MISC
part F text: U_SIM

## MOD ESP32-WROOM-32D TRACE ANT SMD
designator MOD?, comment ESP32-WROOM-32D
Bluetooth, WiFi 802.11b/g/n, Bluetooth v4.2 + EDR, Class 1, 2 and 3 Transceiver Module 2.4GHz ~ 2.5GHz Integrated, Trace Surface Mount; Manufacturer: Espressif Systems; Interface: I2C,SPI,GPIO,PWM,SDIO,UART; Data Rate: 150Mbps; Sensitivity: -98dBm; Memory Size: 536KB; Supplier 1: Digi-Key; Manufacturer Part Number: ESP32-WROOM-32D; Stock 1: 11163; Pricing 1: 1=3.8 (USD); Mount: Surface Mount; Case/Package: SMD/SMT; Min Operating Temperature: -40°C; Max Operating Temperature: 85°C; Packaging: Cut Tape; Frequency: 2.5GHz; ComponentLink1URL: https://www.espressif.com/sites/default/files/documentation/esp32-wroom-32d_esp32-wroom-32u_datasheet_en.pdf?src-supplier=Digi-Key; ComponentLink1Description: https://www.espressif.com/sites/default/files/documentation/esp32-wroom-32d_esp32-wroom-32u_datasheet_en.pdf?src-supplier=Digi-Key; Supplier Part Number 1: 1904-1023-1-ND
footprint MODULE_ESP32-WROOM-32D
pins: 1 GND (power), 2 3V3 (power), 3 CHIP_PU/EN (in), 4 SENSOR_VP (in), 5 SENSOR_VN (in), 6 VDET_1 (in), 7 VDET_2 (in), 8 GPIO32 (io), 9 GPIO33 (io), 10 GPIO25 (io), 11 GPIO26 (io), 12 GPIO27 (io), 13 GPIO14/TMS (io), 14 GPIO12/TDI (io), 15 GND (power), 16 GPIO13/TCK (io), 17 SHD/SD2 (io), 18 SWP/SD3 (io), 19 SCS/CMD (io), 20 SCK/CLK (io), 21 SDO/SD0 (io), 22 SDI/SD1 (io), 23 GPIO15/TDO (io), 24 GPIO2 (io), 25 GPIO0/~{BOOT} (io), 26 GPIO4 (io), 27 GPIO16 (io), 28 GPIO17 (io), 29 GPIO5 (io), 30 GPIO18 (io), 31 GPIO19 (io), 33 GPIO21 (io), 34 RXD (in), 35 TXD (out), 36 GPIO22 (io), 37 GPIO23 (io), 38 GND (power), 39 GND (power)
text: Input Only; JTAG; Int. FLASH; UART0

## MOD LH200K-IF05 240x320 2-inch TFT LCD Display
designator U?, comment LH200K-IF05  (mechanical)
2” TFT LCD Display.; Manufacturer: Shenzhen Limito Technology Inc.; Manufacturer Part Number: LH200K-IF05

## MOD QG-2864KSWEG01 OLED DISPLAY
designator MOD1, comment QG-2864KSWEG01  pin_1: GND  pin_2: C2P  pin_3: C2N  pin_4: C1P  pin_5: C1N  pin_6: VBAT  pin_7: NC  pin_8: VSS  pin_9: VDD  pin_10: BS0  pin_11: BS1  pin_12: BS2  pin_13: CS#  pin_14: RES#  pin_15: D/C#  pin_16: R/W#  pin_17: E/RD#  pin_18: D0  pin_19: D1  pin_20: D2  pin_21: D3  pin_22: D4  pin_23: D5  pin_24: D6  pin_25: D7  pin_26: IREF  pin_27: VCOMH  pin_28: VCC
OLED Display Module FPC #LT1306P22 TOP 30P 0.7MM; Manufacturer: Limito Technology Inc.; Number of Columns: 128; Number of Circuits: 30; Manufacturer Part Number: QG-2864KSWEG01; Mount: Surface Mount; Min Operating Temperature: -40°C; Max Operating Temperature: 70°C; Number of Rows: 64; Number of Contacts: 30; Pitch: 0.7mm; pin_29: VSS; pin_30: GND
footprint QG-2864KSWEG01_Flipped (Folding Type OLED Display Module)
footprint QG-2864KSWEG01_STRAIGHT (Folding Type OLED Display Module)
pins: 1, 2, 3, 4, 5, 6, 7, 8, 9, 10, 11, 12, 13, 14, 15, 16, 17, 18, 19, 20, 21, 22, 23, 24, 25, 26, 27, 28, 29, 30

## MountHole_M2
designator MNT?, comment MountHole M2. Nothing to buy or mount  (value not drawn)  (no BOM)
PCB Mount Hole. There is nothing to buy or mount.
footprint MountHole_M2 (Footprint not found)
pins: 1
text: M2

## MountHole_M2.5
designator MNT?, comment MountHole M3. Nothing to buy or mount  (value not drawn)  (no BOM)
PCB Mount Hole. There is nothing to buy or mount.
footprint MountHole_M2.5 (Mount Hole M2.5)
pins: 1
text: M2.5

## MountHole_M3
designator MNT?, comment MountHole M3. Nothing to buy or mount  (value not drawn)  (no BOM)
PCB Mount Hole. There is nothing to buy or mount.
footprint MountHole_M3
pins: 1
text: M3

## NC Bridge
designator J?  (net tie, no BOM)
NC PCB Bridge (May be opened by cutting the copper trace)
footprint NC_SolderBridge_0603
footprint NC_SolderBridge_0805
footprint NC_SolderBridge_1206
pins: 1, 2

## Net Tie Line
designator NT?, comment Net Tie  (net tie, no BOM)
ClassName: Net Tie
footprint Net Tie 1x3mm
footprint Net Tie 6x30mil
footprint Net Tie 8x30mil
pins: 1, 2

## NET_TIE_BOX
designator J?  (value not drawn)  (net tie, no BOM)
A Copper Track on a PCB to connect two separated reference nets
footprint NET TIE 040 040 (0.4mm)
footprint NET TIE 100 060 (1.0mm)
pins: 1, 2
text: NET TIE

## NO Bridge
designator J?  (no BOM)
NO PCB Bridge (May be closed by a solder blob)
footprint NO_SolderBridge_0603
footprint NO_SolderBridge_0805
footprint NO_SolderBridge_1206
pins: 1, 2

## SWITCH TACTILE SPST-NO 0.05A 12V
designator SW?, comment SPST
Tactile Switch SPST-NO Top Actuated Surface Mount; Manufacturer: Omron; Manufacturer Part Number: B3U-1000P; Mechanical Life: 200000Cycles; Contact Current Rating: 50mA; Operating Force: 1.5N; Voltage Rating (DC): 12V; Contact Resistance: 100mR; Illumination Type: Non-Illuminated,Illuminated; Switch Travel: 0.15mm; Switch Function: Off-Mom; Actuator Type: Standard; Actuator Length: 0.4mm; Ratings: Dust Proof,IP40; Supplier 1: Digi-Key; Stock 1: 43634; Pricing 1: 1=0.98, 10=0.943, 25=0.8812, 100=0.765, 250=0.6961, 500=0.6454, 1000=0.5982 (USD); Mount: Surface Mount; Weight: 0.000776oz; Contact Material: Silver; Min Operating Temperature: -25°C; Max Operating Temperature: 70°C; Max Current Rating: 50mA; Packaging: Tape and Reel; Throw Configuration: SPST; Package Quantity: 1; Max Voltage Rating (DC): 12V; Current Rating: 50mA; Termination: SMD/SMT; Electrical Life: 200000Cycles; Insulation Resistance: 100MR; Orientation: Straight; Length: 4mm; Height: 1.2mm; Width: 3mm; Depth: 2.5mm; REACH SVHC: Unknown; Lead Free: Lead Free; ComponentLink1URL: https://www.verical.com/server-webapp/html/getDatasheet?partID=552554&src-supplier=Verical; ComponentLink1Description: https://www.verical.com/server-webapp/html/getDatasheet?partID=552554&src-supplier=Verical; ComponentLink2URL: http://www.farnell.com/datasheets/2610940.pdf?src-supplier=Element14; ComponentLink2Description: http://www.farnell.com/datasheets/2610940.pdf?src-supplier=Element14; ComponentLink3URL: http://www.farnell.com/datasheets/2610940.pdf?src-supplier=Farnell; ComponentLink3Description: http://www.farnell.com/datasheets/2610940.pdf?src-supplier=Farnell; ComponentLink4URL: https://www.distrelec.biz/Web/Downloads/he/et/B3U_eng_datasheet.pdf?mime=application%2Fpdf&src-supplier=Distrelec; ComponentLink4Description: https://www.distrelec.biz/Web/Downloads/he/et/B3U_eng_datasheet.pdf?mime=application%2Fpdf&src-supplier=Distrelec; ComponentLink5URL: https://omronfs.omron.com/en_US/ecb/products/pdf/en-b3u.pdf?src-supplier=Digi-Key; ComponentLink5Description: https://omronfs.omron.com/en_US/ecb/products/pdf/en-b3u.pdf?src-supplier=Digi-Key; ComponentLink6URL: http://www.onlinecomponents.com/productFiles/mf-OM/en-b3u.pdf?src-supplier=Onlinecomponents.com; ComponentLink6Description: http://www.onlinecomponents.com/productFiles/mf-OM/en-b3u.pdf?src-supplier=Onlinecomponents.com; ComponentLink7URL: https://www.alliedelec.com/m/d/4c8a9ef82804fc3c241a13c1e298fd73.pdf?src-supplier=Allied+Electronics; ComponentLink7Description: https://www.alliedelec.com/m/d/4c8a9ef82804fc3c241a13c1e298fd73.pdf?src-supplier=Allied+Electronics; Supplier Part Number 1: SW1020CT-ND
pins: 1, 3

## SWITCH TACTILE SPST-NO R/A 0.05A 12V
designator SW?, comment SPST
Tactile Switch SPST-NO Side Actuated Surface Mount, Right Angle; Manufacturer: Omron; Manufacturer Part Number: B3U-3000P; Mechanical Life: 100000Cycles; Operating Force: 1.59N; Contact Resistance: 100mR; Max Current Rating: 50mA; Voltage Rating (DC): 12V; Illumination Type: Non-Illuminated,Illuminated; Switch Travel: 0.2mm; Switch Function: Off-Mom; Actuator Length: 0.7mm; Ratings: Dust Proof,IP40; Supplier 1: Digi-Key; Stock 1: 21895; Pricing 1: 1=0.98, 10=0.943, 25=0.8812, 100=0.765, 250=0.6961, 500=0.6454, 1000=0.5982 (USD); Mount: Surface Mount; Weight: 0.022g; Contact Material: Silver; Min Operating Temperature: -25°C; Max Operating Temperature: 70°C; Throw Configuration: SPST; Packaging: Tape and Reel; Package Quantity: 1; Max Voltage Rating (DC): 12V; Contact Current Rating: 50mA; Current Rating: 50mA; Termination: SMD/SMT; Electrical Life: 100000Cycles; Orientation: Right Angle; Insulation Resistance: 100MR; Length: 4mm; Depth: 3.2mm; REACH SVHC: Unknown; Lead Free: Lead Free; ComponentLink1URL: http://www.farnell.com/datasheets/2610940.pdf?src-supplier=Farnell; ComponentLink1Description: http://www.farnell.com/datasheets/2610940.pdf?src-supplier=Farnell; ComponentLink2URL: http://omronfs.omron.com/en_US/ecb/products/pdf/en-b3u.pdf?src-supplier=Digi-Key; ComponentLink2Description: http://omronfs.omron.com/en_US/ecb/products/pdf/en-b3u.pdf?src-supplier=Digi-Key; ComponentLink3URL: https://omronfs.omron.com/en_US/ecb/products/pdf/en-b3u.pdf?src-supplier=Digi-Key; ComponentLink3Description: https://omronfs.omron.com/en_US/ecb/products/pdf/en-b3u.pdf?src-supplier=Digi-Key; ComponentLink4URL: http://www.farnell.com/datasheets/2610940.pdf?src-supplier=Element14; ComponentLink4Description: http://www.farnell.com/datasheets/2610940.pdf?src-supplier=Element14; ComponentLink5URL: http://www.alliedelec.com/images/products/datasheets/bm/OMRON_ELECTRONICS_INC/70176037.pdf?src-supplier=Allied+Electronics; ComponentLink5Description: http://www.alliedelec.com/images/products/datasheets/bm/OMRON_ELECTRONICS_INC/70176037.pdf?src-supplier=Allied+Electronics; ComponentLink6URL: https://www.distrelec.biz/Web/Downloads/he/et/B3U_eng_datasheet.pdf?mime=application%2Fpdf&src-supplier=Distrelec; ComponentLink6Description: https://www.distrelec.biz/Web/Downloads/he/et/B3U_eng_datasheet.pdf?mime=application%2Fpdf&src-supplier=Distrelec; Supplier Part Number 1: SW1022CT-ND
footprint SW_B3U-3000P
pins: 1, 2

## SWITCH_TACTILE_SPST-NO_0.05A_16V
designator SW?, comment SPST
Tactile Switch SPST-NO Top Actuated; Manufacturer: ITT C&K; Manufacturer Part Number: PTS810SJM250SMTRLFS; Mechanical Life: 150000Cycles; Operating Force: 160gf; Current Rating: 50mA; Voltage Rating (DC): 16V; Illumination Type: Non-Illuminated; Switch Travel: 0.15mm; Switch Function: Off-Mom; Actuator Type: Standard; Supplier 1: Digi-Key; Stock 1: 84648; Pricing 1: 1=0.36, 10=0.345, 25=0.3244, 100=0.2817, 250=0.2556, 500=0.2378, 1000=0.214 (USD); Mount: Surface Mount; Case/Package: SMD/SMT; Color: Black; Contact Plating: Silver; Min Operating Temperature: -40°C; Max Operating Temperature: 85°C; Packaging: Tape and Reel; Package Quantity: 2900; Throw Configuration: SPST; Max Current Rating: 50mA; Termination: J-Bend; Orientation: Straight; Length: 3.2mm; Depth: 4.6mm; Lead Free: Lead Free; ComponentLink1URL: http://www.ckswitches.com/media/1476/pts810.pdf?src-supplier=Mouser; ComponentLink1Description: http://www.ckswitches.com/media/1476/pts810.pdf?src-supplier=Mouser; ComponentLink2URL: https://www.ckswitches.com/media/1476/pts810.pdf?src-supplier=Digi-Key; ComponentLink2Description: https://www.ckswitches.com/media/1476/pts810.pdf?src-supplier=Digi-Key; Supplier Part Number 1: CKN10502CT-ND
footprint PTS810
pins: 1, 3

## TACT ULTRA TB 2.8X1.9X0.6 160GF
designator SW?
Tactile Switch SPST-NO Top Actuated Surface Mount; Manufacturer: TE Connectivity; Manufacturer Part Number: USLPT2819DT2TR; Actuator Material: Nylon,Polyamide; Mechanical Life: 300000Cycles; Throw Configuration: SPST; Illumination Type: Non-Illuminated; Switch Function: Off-Mom; Actuator Type: Standard; Operating Force: 160gf; Switch Travel: 0.13mm; Supplier 1: Digi-Key; Stock 1: 7628; Pricing 1: 1=0.66, 10=0.636, 25=0.612, 100=0.5297, 250=0.4826, 500=0.4473, 1000=0.4002, 2500=0.379 (USD); Mount: Surface Mount; Min Operating Temperature: -40°C; Max Operating Temperature: 85°C; Packaging: Tape and Reel; Termination: SMD/SMT; ComponentLink1URL: https://www.te.com/commerce/DocumentDelivery/DDEController?Action=srchrtrv&amp;DocNm=2337225&amp;DocType=Customer+Drawing&amp;DocLang=English&src-supplier=Digi-Key; ComponentLink1Description: https://www.te.com/commerce/DocumentDelivery/DDEController?Action=srchrtrv&amp;DocNm=2337225&amp;DocType=Customer+Drawing&amp;DocLang=English&src-supplier=Digi-Key; Supplier Part Number 1: 450-3358-1-ND
footprint SWITCH USLPT2819DT2TR TACTILE TE (Footprint not found)
pins: 1, 2

## Test Point Pad
designator TP?  (value not drawn)  (no BOM)
Test Point. There is nothing to buy or mount.; ClassName: TestPoint; CompType: TestPoint; Manufacturer: N/A; MountType: N/A; PackageReference: TetsPoint; PartNumber: N/A
footprint Testpoint (Test Point)
pins: 1